# Altium schematic symbol library s2b-eh.SchLib: 1 symbol
Pins are listed as number, name and electrical type; pins without a type are passive.

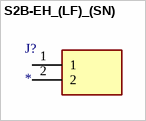
[diagram p0: symbol S2B-EH_(LF)_(SN)]

## S2B-EH_(LF)_(SN)
designator J?
Connector; Manufacturer_Name: JST (JAPAN SOLDERLESS TERMINALS); Manufacturer_Part_Number: S2B-EH (LF) (SN); Allied_Number: R1044235; Datasheet Link: http://uk.rs-online.com/web/p/products/5151305; Height: 4.2mm; RS Part Number: 5151305P; RS Price/Stock: http://uk.rs-online.com/web/p/products/5151305P; Allied Price/Stock: https://www.alliedelec.com/jst-manufacturing-s2b-eh-lf-sn-/R1044235/
footprint SHDR2W
pins: 1, 2